# Altium schematic symbol library SCH - POWER - SWITCHMODE - TI TPS65262-1RHB.SchLib: 1 symbol
Pins are listed as number, name and electrical type; pins without a type are passive.

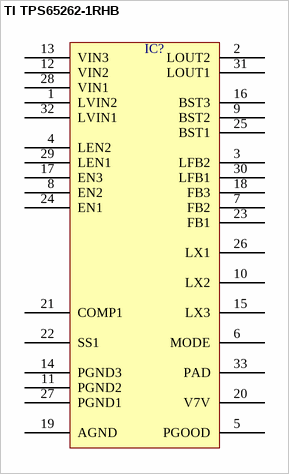
[diagram p0: symbol TI TPS65262-1RHB]

## TI TPS65262-1RHB
designator IC?  (value not drawn)
pins: 1 LVIN2, 2 LOUT2, 3 LFB2, 4 LEN2, 5 PGOOD, 6 MODE, 7 FB2, 8 EN2, 9 BST2, 10 LX2, 11 PGND2, 12 VIN2, 13 VIN3, 14 PGND3, 15 LX3, 16 BST3, 17 EN3, 18 FB3, 19 AGND, 20 V7V, 21 COMP1, 22 SS1, 23 FB1, 24 EN1, 25 BST1, 26 LX1, 27 PGND1, 28 VIN1, 29 LEN1, 30 LFB1, 31 LOUT1, 32 LVIN1, 33 PAD